# Altium schematic symbol library АЛ307.SchLib: 1 symbol
Pins are listed as number, name and electrical type; pins without a type are passive.

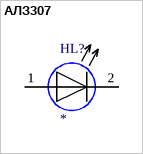
[diagram p0: symbol АЛЗ307]

## АЛЗ307
designator HL?
footprint АЛ307
pins: 1, 2